# Altium schematic symbol library ESP32.SchLib: 28 symbols
Pins are listed as number, name and electrical type; pins without a type are passive.

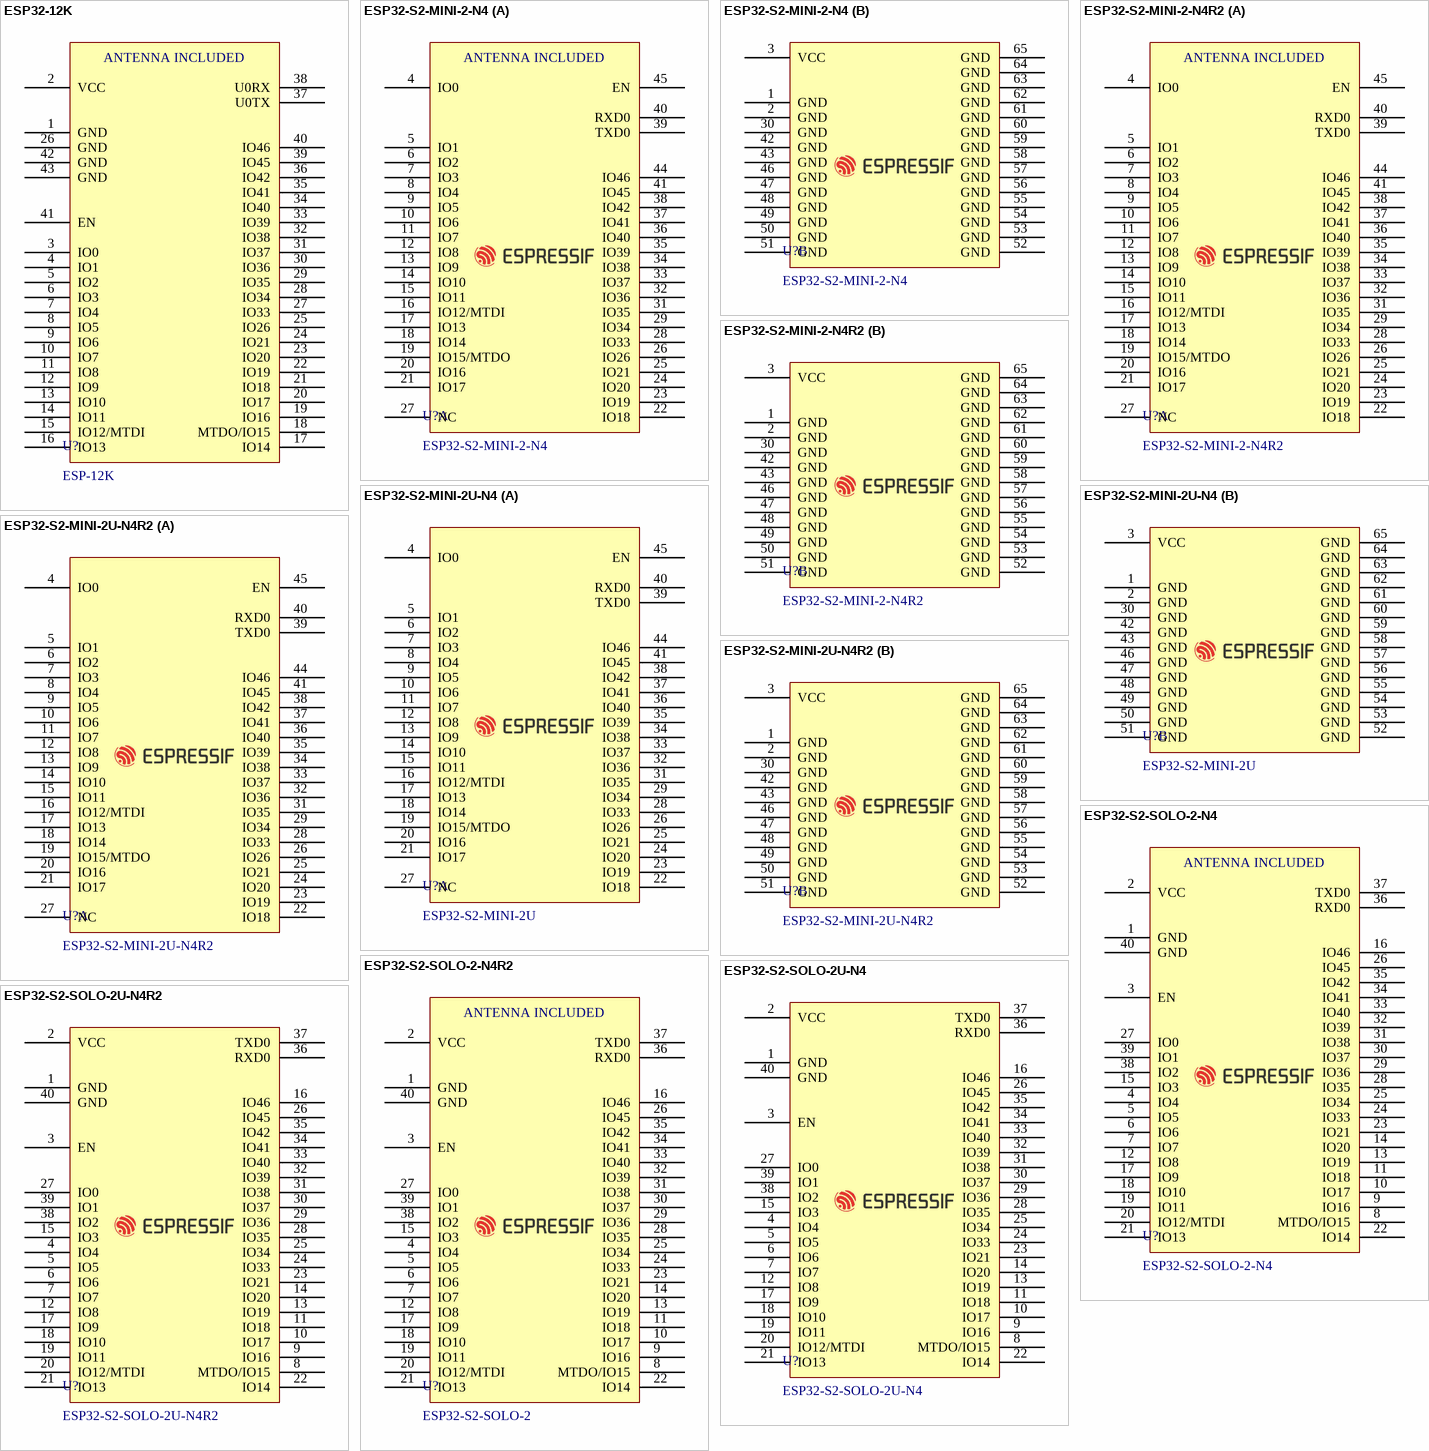
[diagram p0: symbols ESP32-12K to ESP32-S2-SOLO-2U-N4R2]

## ESP32-12K
designator U?, comment ESP-12K
ESP32-S2; Manufacturer: AI-Thinker; Supply Voltage - Max: 3.6 V; Supply Voltage - Min: 3 V; Part Number: ESP-12K; Supplier 1 URL: N/A; Supplier 2 URL: N/A; Supplier 3 URL: https://www.thegioiic.com/esp-12k-8m-psram-esp8266-ai-thinker-mach-thu-phat-wifi; Value: ESP-12K; Manufacturer Part Number: ESP-12K; Packaging: Tape and Reel; Supplier 1: Mouser; Supplier 1 Part Number: N/A; Supplier 2: Digi-Key; Supplier 2 Part Number: N/A; Supplier 3: thegioiic; Supplier 3 Part Number: ESP-12K; Mount: SMD/SMT; Operating Temperature Max: + 85 C; Operating Temperature Min: - 40 C; ComponentLink1Description: Datasheet; ComponentLink1URL: N/A; LCSC Part #: N/A; Flash size: N/A; Ram size: N/A
footprint ESP32-12K (Chip Array, Concave, 41-Leads, Pitch 1.50mm,  Body 31.00x18.00mm,  IPC Medium Density)
pins: 1 GND, 2 VCC, 3 IO0, 4 IO1, 5 IO2, 6 IO3, 7 IO4, 8 IO5, 9 IO6, 10 IO7, 11 IO8, 12 IO9, 13 IO10, 14 IO11, 15 IO12/MTDI, 16 IO13, 17 IO14, 18 MTDO/IO15, 19 IO16, 20 IO17, 21 IO18, 22 IO19, 23 IO20, 24 IO21, 25 IO26, 26 GND, 27 IO33, 28 IO34, 29 IO35, 30 IO36, 31 IO37, 32 IO38, 33 IO39, 34 IO40, 35 IO41, 36 IO42, 37 U0TX, 38 U0RX, 39 IO45, 40 IO46, 41 EN, 42 GND, 43 GND
text: ANTENNA INCLUDED

## ESP32-S2-MINI-2-N4
designator U?
ESP32-S2 embedded, Xtensa® single-core 32-bit LX7 microprocessor, up to 240 MHz; Part Number: ESP32-S2-MINI-2-N4A; Manufacturer: Espressif Systems; Supply Voltage - Max: 3.6 V; Supply Voltage - Min: 3 V; Flash size: 4MB; Supplier 1 URL: https://www.mouser.com/ProductDetail/Espressif-Systems/ESP32-S2-MINI-2-N4?qs=sGAEpiMZZMu3sxpa5v1qrjXjSzkapvOOr/iFVzmZzOw%3D; Supplier 2 URL: https://www.digikey.cn/en/products/detail/espressif-systems/ESP32-S2-MINI-2-N4/16591891; Supplier 3 URL: N/A; Value: ESP32-S2-MINI-2-N4; Manufacturer Part Number: ESP32-S2-MINI-2-N4; Packaging: Tape and Reel; Supplier 1: Mouser; Supplier 1 Part Number: 356-ESP32MINI-2-N4; Supplier 2: Digi-Key; Supplier 2 Part Number: 1965-ESP32-S2-MINI-2-N4CT-ND; Supplier 3: thegioiic; Supplier 3 Part Number: N/A; Mount: SMD/SMT; Operating Temperature Max: + 85 C; Operating Temperature Min: - 40 C; ComponentLink1Description: Datasheet; ComponentLink1URL: https://www.mouser.com/datasheet/2/891/Espressif_Systems_7_27_2022_ESP32_S2_MINI_22U_EN_V-3002662.pdf; LCSC Part #: N/A; Ram size: N/A
footprint ESP32_MINI_OB_ANTENNA
part A pins: 4 IO0, 5 IO1, 6 IO2, 7 IO3, 8 IO4, 9 IO5, 10 IO6, 11 IO7, 12 IO8, 13 IO9, 14 IO10, 15 IO11, 16 IO12/MTDI, 17 IO13, 18 IO14, 19 IO15/MTDO, 20 IO16, 21 IO17, 22 IO18, 23 IO19, 24 IO20, 25 IO21, 26 IO26, 27 NC, 28 IO33, 29 IO34, 31 IO35, 32 IO36, 33 IO37, 34 IO38, 35 IO39, 36 IO40, 37 IO41, 38 IO42, 39 TXD0, 40 RXD0, 41 IO45, 44 IO46, 45 EN
part B pins: 1 GND, 2 GND, 3 VCC, 30 GND, 42 GND, 43 GND, 46 GND, 47 GND, 48 GND, 49 GND, 50 GND, 51 GND, 52 GND, 53 GND, 54 GND, 55 GND, 56 GND, 57 GND, 58 GND, 59 GND, 60 GND, 61 GND, 62 GND, 63 GND, 64 GND, 65 GND
part A text: ANTENNA INCLUDED

## ESP32-S2-MINI-2-N4R2
designator U?
ESP32-S2 embedded, Xtensa® single-core 32-bit LX7 microprocessor, up to 240 MHz; Part Number: ESP32-S2-MINI-2-N4R2A; Manufacturer: Espressif Systems; Supply Voltage - Max: 3.6 V; Supply Voltage - Min: 3 V; Flash size: 4MB; Ram size: 2MB; Supplier 1 URL: https://www.mouser.com/ProductDetail/Espressif-Systems/ESP32-S2-MINI-2-N4R2?qs=sGAEpiMZZMu3sxpa5v1qrjXjSzkapvOOJC9Dptg9ErI%3D; Supplier 2 URL: https://www.digikey.cn/en/products/detail/espressif-systems/ESP32-S2-MINI-2-N4R2/16591895; Supplier 3 URL: N/A; Value: ESP32-S2-MINI-2-N4R2; Manufacturer Part Number: ESP32-S2-MINI-2-N4R2; Packaging: Tape and Reel; Supplier 1: Mouser; Supplier 1 Part Number: ESP32-S2-MINI-2-N4R2; Supplier 2: Digi-Key; Supplier 2 Part Number: 1965-ESP32-S2-MINI-2-N4R2-ND; Supplier 3: thegioiic; Supplier 3 Part Number: N/A; Mount: SMD/SMT; Operating Temperature Max: + 85 C; Operating Temperature Min: - 40 C; ComponentLink1Description: Datasheet; ComponentLink1URL: https://www.mouser.com/datasheet/2/891/Espressif_Systems_7_27_2022_ESP32_S2_MINI_22U_EN_V-3002662.pdf; LCSC Part #: N/A
footprint ESP32_MINI_OB_ANTENNA
part A pins: 4 IO0, 5 IO1, 6 IO2, 7 IO3, 8 IO4, 9 IO5, 10 IO6, 11 IO7, 12 IO8, 13 IO9, 14 IO10, 15 IO11, 16 IO12/MTDI, 17 IO13, 18 IO14, 19 IO15/MTDO, 20 IO16, 21 IO17, 22 IO18, 23 IO19, 24 IO20, 25 IO21, 26 IO26, 27 NC, 28 IO33, 29 IO34, 31 IO35, 32 IO36, 33 IO37, 34 IO38, 35 IO39, 36 IO40, 37 IO41, 38 IO42, 39 TXD0, 40 RXD0, 41 IO45, 44 IO46, 45 EN
part B pins: 1 GND, 2 GND, 3 VCC, 30 GND, 42 GND, 43 GND, 46 GND, 47 GND, 48 GND, 49 GND, 50 GND, 51 GND, 52 GND, 53 GND, 54 GND, 55 GND, 56 GND, 57 GND, 58 GND, 59 GND, 60 GND, 61 GND, 62 GND, 63 GND, 64 GND, 65 GND
part A text: ANTENNA INCLUDED

## ESP32-S2-MINI-2U-N4
designator U?, comment ESP32-S2-MINI-2U
ESP32-S2 embedded, Xtensa® single-core 32-bit LX7 microprocessor, up to 240 MHz; Part Number: ESP32-S2-MINI-2U-N4A; Manufacturer: Espressif Systems; Manufacturer Part Number: ESP32-S2-MINI-2U-N4; Supply Voltage - Max: 3.6 V; Supply Voltage - Min: 3 V; Flash size: 4MB; Supplier 1 URL: https://www.mouser.com/ProductDetail/Espressif-Systems/ESP32-S2-MINI-2U-N4?qs=sGAEpiMZZMu3sxpa5v1qrjXjSzkapvOOhy01huix4lM%3D; Supplier 2 URL: N/A; Supplier 3 URL: N/A; Value: ESP32-S2-MINI-2U; Packaging: Tape and Reel; Supplier 1: Mouser; Supplier 1 Part Number: 356-ESP32MINI-2U-N4; Supplier 2: Digi-Key; Supplier 2 Part Number: N/A; Supplier 3: thegioiic; Supplier 3 Part Number: N/A; Mount: SMD/SMT; Operating Temperature Max: + 85 C; Operating Temperature Min: - 40 C; ComponentLink1Description: Datasheet; ComponentLink1URL: https://www.mouser.com/datasheet/2/891/Espressif_Systems_7_27_2022_ESP32_S2_MINI_22U_EN_V-3002662.pdf; LCSC Part #: N/A; Ram size: N/A
footprint ESP32_MINI
part A pins: 4 IO0, 5 IO1, 6 IO2, 7 IO3, 8 IO4, 9 IO5, 10 IO6, 11 IO7, 12 IO8, 13 IO9, 14 IO10, 15 IO11, 16 IO12/MTDI, 17 IO13, 18 IO14, 19 IO15/MTDO, 20 IO16, 21 IO17, 22 IO18, 23 IO19, 24 IO20, 25 IO21, 26 IO26, 27 NC, 28 IO33, 29 IO34, 31 IO35, 32 IO36, 33 IO37, 34 IO38, 35 IO39, 36 IO40, 37 IO41, 38 IO42, 39 TXD0, 40 RXD0, 41 IO45, 44 IO46, 45 EN
part B pins: 1 GND, 2 GND, 3 VCC, 30 GND, 42 GND, 43 GND, 46 GND, 47 GND, 48 GND, 49 GND, 50 GND, 51 GND, 52 GND, 53 GND, 54 GND, 55 GND, 56 GND, 57 GND, 58 GND, 59 GND, 60 GND, 61 GND, 62 GND, 63 GND, 64 GND, 65 GND

## ESP32-S2-MINI-2U-N4R2
designator U?
ESP32-S2 embedded, Xtensa® single-core 32-bit LX7 microprocessor, up to 240 MHz; Part Number: ESP32-S2-MINI-2U-N4R2A; Manufacturer: Espressif Systems; Supply Voltage - Max: 3.6 V; Supply Voltage - Min: 3 V; Flash size: 4MB; Ram size: 2MB; Supplier 1 URL: https://www.mouser.com/ProductDetail/Espressif-Systems/ESP32-S2-MINI-2U-N4R2?qs=sGAEpiMZZMu3sxpa5v1qrjXjSzkapvOOZRm3ki/1tDs%3D; Supplier 2 URL: https://www.digikey.cn/en/products/detail/espressif-systems/ESP32-S2-MINI-2U-N4R2/16591889; Supplier 3 URL: N/A; Value: ESP32-S2-MINI-2U-N4R2; Manufacturer Part Number: ESP32-S2-MINI-2U-N4R2; Packaging: Tape and Reel; Supplier 1: Mouser; Supplier 1 Part Number: 356-ESP32MINI2U-N4R2; Supplier 2: Digi-Key; Supplier 2 Part Number: 1965-ESP32-S2-MINI-2U-N4R2-ND; Supplier 3: thegioiic; Supplier 3 Part Number: N/A; Mount: SMD/SMT; Operating Temperature Max: + 85 C; Operating Temperature Min: - 40 C; ComponentLink1Description: Datasheet; ComponentLink1URL: https://www.mouser.com/datasheet/2/891/Espressif_Systems_7_27_2022_ESP32_S2_MINI_22U_EN_V-3002662.pdf; LCSC Part #: N/A
footprint ESP32_MINI
part A pins: 4 IO0, 5 IO1, 6 IO2, 7 IO3, 8 IO4, 9 IO5, 10 IO6, 11 IO7, 12 IO8, 13 IO9, 14 IO10, 15 IO11, 16 IO12/MTDI, 17 IO13, 18 IO14, 19 IO15/MTDO, 20 IO16, 21 IO17, 22 IO18, 23 IO19, 24 IO20, 25 IO21, 26 IO26, 27 NC, 28 IO33, 29 IO34, 31 IO35, 32 IO36, 33 IO37, 34 IO38, 35 IO39, 36 IO40, 37 IO41, 38 IO42, 39 TXD0, 40 RXD0, 41 IO45, 44 IO46, 45 EN
part B pins: 1 GND, 2 GND, 3 VCC, 30 GND, 42 GND, 43 GND, 46 GND, 47 GND, 48 GND, 49 GND, 50 GND, 51 GND, 52 GND, 53 GND, 54 GND, 55 GND, 56 GND, 57 GND, 58 GND, 59 GND, 60 GND, 61 GND, 62 GND, 63 GND, 64 GND, 65 GND

## ESP32-S2-SOLO-2-N4
designator U?
ESP32-S2 embedded, Xtensa® single-core 32-bit LX7 microprocessor, up to 240 MHz; Manufacturer: Espressif Systems; Supply Voltage - Max: 3.6 V; Supply Voltage - Min: 3 V; Flash size: 4MB; Part Number: ESP32-S2-SOLO-2-N4; Supplier 1 URL: https://www.mouser.com/ProductDetail/Espressif-Systems/ESP32-S2-SOLO-2-N4?qs=sGAEpiMZZMu3sxpa5v1qrjXjSzkapvOOEC88hoUZJyA%3D; Supplier 2 URL: https://www.digikey.cn/en/products/detail/espressif-systems/ESP32-S2-SOLO-2-N4/16591892; Supplier 3 URL: N/A; Value: ESP32-S2-SOLO-2-N4; Manufacturer Part Number: ESP32-S2-SOLO-2-N4; Packaging: Tape and Reel; Supplier 1: Mouser; Supplier 1 Part Number: 356-ESP32SOLO-2-N4; Supplier 2: Digi-Key; Supplier 2 Part Number: 1965-ESP32-S2-SOLO-2-N4CT-ND; Supplier 3: thegioiic; Supplier 3 Part Number: N/A; Mount: SMD/SMT; Operating Temperature Max: + 85 C; Operating Temperature Min: - 40 C; ComponentLink1Description: Datasheet; ComponentLink1URL: https://www.mouser.com/datasheet/2/891/Espressif_Systems_7_27_2022_ESP32_S2_SOLO_22U_EN_v-3002658.pdf; LCSC Part #: N/A; Ram size: N/A
footprint ESP32_SOLO_OB_ANTENNA
pins: 1 GND, 2 VCC, 3 EN, 4 IO4, 5 IO5, 6 IO6, 7 IO7, 8 MTDO/IO15, 9 IO16, 10 IO17, 11 IO18, 12 IO8, 13 IO19, 14 IO20, 15 IO3, 16 IO46, 17 IO9, 18 IO10, 19 IO11, 20 IO12/MTDI, 21 IO13, 22 IO14, 23 IO21, 24 IO33, 25 IO34, 26 IO45, 27 IO0, 28 IO35, 29 IO36, 30 IO37, 31 IO38, 32 IO39, 33 IO40, 34 IO41, 35 IO42, 36 RXD0, 37 TXD0, 38 IO2, 39 IO1, 40 GND
text: ANTENNA INCLUDED

## ESP32-S2-SOLO-2-N4R2
designator U?, comment ESP32-S2-SOLO-2
ESP32-S2 embedded, Xtensa® single-core 32-bit LX7 microprocessor, up to 240 MHz; Part Number: ESP32-S2-SOLO-2-N4R2; Manufacturer: Espressif Systems; Supply Voltage - Max: 3.6 V; Supply Voltage - Min: 3 V; Flash size: 4MB; Ram size: 2MB; Supplier 1 URL: https://www.mouser.com/ProductDetail/Espressif-Systems/ESP32-S2-SOLO-2-N4R2?qs=sGAEpiMZZMu3sxpa5v1qrjXjSzkapvOO3gwRcSEsnoY%3D; Supplier 2 URL: https://www.digikey.cn/en/products/detail/espressif-systems/ESP32-S2-SOLO-2-N4R2/16591896; Supplier 3 URL: N/A; Value: ESP32-S2-SOLO-2; Manufacturer Part Number: ESP32-S2-SOLO-2-N4R2; Packaging: Tape and Reel; Supplier 1: Mouser; Supplier 1 Part Number: 356-ESP32SOLO-2-N4R2; Supplier 2: Digi-Key; Supplier 2 Part Number: 1965-ESP32-S2-SOLO-2-N4R2TR-ND; Supplier 3: thegioiic; Supplier 3 Part Number: N/A; Mount: SMD/SMT; Operating Temperature Max: + 85 C; Operating Temperature Min: - 40 C; ComponentLink1Description: Datasheet; ComponentLink1URL: https://www.mouser.com/datasheet/2/891/Espressif_Systems_7_27_2022_ESP32_S2_SOLO_22U_EN_v-3002658.pdf; LCSC Part #: N/A
footprint ESP32_SOLO_OB_ANTENNA
pins: 1 GND, 2 VCC, 3 EN, 4 IO4, 5 IO5, 6 IO6, 7 IO7, 8 MTDO/IO15, 9 IO16, 10 IO17, 11 IO18, 12 IO8, 13 IO19, 14 IO20, 15 IO3, 16 IO46, 17 IO9, 18 IO10, 19 IO11, 20 IO12/MTDI, 21 IO13, 22 IO14, 23 IO21, 24 IO33, 25 IO34, 26 IO45, 27 IO0, 28 IO35, 29 IO36, 30 IO37, 31 IO38, 32 IO39, 33 IO40, 34 IO41, 35 IO42, 36 RXD0, 37 TXD0, 38 IO2, 39 IO1, 40 GND
text: ANTENNA INCLUDED

## ESP32-S2-SOLO-2U-N4
designator U?
ESP32-S2 embedded, Xtensa® single-core 32-bit LX7 microprocessor, up to 240 MHz; Manufacturer: Espressif Systems; Supply Voltage - Max: 3.6 V; Supply Voltage - Min: 3 V; Flash size: 4MB; Part Number: ESP32-S2-SOLO-2U-N4; Supplier 1 URL: https://www.mouser.com/ProductDetail/Espressif-Systems/ESP32-S2-SOLO-2U-N4?qs=sGAEpiMZZMu3sxpa5v1qrjXjSzkapvOOhwzZOR2/Xv4%3D; Supplier 2 URL: https://www.digikey.cn/en/products/detail/espressif-systems/ESP32-S2-SOLO-2U-N4/16591894; Supplier 3 URL: N/A; Value: ESP32-S2-SOLO-2U-N4; Manufacturer Part Number: ESP32-S2-SOLO-2U-N4; Packaging: Tape and Reel; Supplier 1: Mouser; Supplier 1 Part Number: 356-ESP32SOLO-2U-N4; Supplier 2: Digi-Key; Supplier 2 Part Number: 1965-ESP32-S2-SOLO-2U-N4CT-ND; Supplier 3: thegioiic; Supplier 3 Part Number: N/A; Mount: SMD/SMT; Operating Temperature Max: + 85 C; Operating Temperature Min: - 40 C; ComponentLink1Description: Datasheet; ComponentLink1URL: https://www.mouser.com/datasheet/2/891/Espressif_Systems_7_27_2022_ESP32_S2_SOLO_22U_EN_v-3002658.pdf; LCSC Part #: N/A; Ram size: N/A
footprint ESP32_SOLO
pins: 1 GND, 2 VCC, 3 EN, 4 IO4, 5 IO5, 6 IO6, 7 IO7, 8 MTDO/IO15, 9 IO16, 10 IO17, 11 IO18, 12 IO8, 13 IO19, 14 IO20, 15 IO3, 16 IO46, 17 IO9, 18 IO10, 19 IO11, 20 IO12/MTDI, 21 IO13, 22 IO14, 23 IO21, 24 IO33, 25 IO34, 26 IO45, 27 IO0, 28 IO35, 29 IO36, 30 IO37, 31 IO38, 32 IO39, 33 IO40, 34 IO41, 35 IO42, 36 RXD0, 37 TXD0, 38 IO2, 39 IO1, 40 GND

## ESP32-S2-SOLO-2U-N4R2
designator U?
ESP32-S2 embedded, Xtensa® single-core 32-bit LX7 microprocessor, up to 240 MHz; Manufacturer: Espressif Systems; Supply Voltage - Max: 3.6 V; Supply Voltage - Min: 3 V; Flash size: 4MB; Ram size: 2MB; Part Number: ESP32-S2-SOLO-2U-N4R2; Supplier 1 URL: https://www.mouser.com/ProductDetail/Espressif-Systems/ESP32-S2-SOLO-2U-N4R2?qs=sGAEpiMZZMu3sxpa5v1qrjXjSzkapvOO/wRv9SAyZyc%3D; Supplier 2 URL: https://www.digikey.cn/en/products/detail/espressif-systems/esp32-s2-solo-2u-n4r2/16591890; Supplier 3 URL: N/A; Value: ESP32-S2-SOLO-2U-N4R2; Manufacturer Part Number: ESP32-S2-SOLO-2U-N4R2; Packaging: Tape and Reel; Supplier 1: Mouser; Supplier 1 Part Number: 356-ESP32SOLO2U-N4R2; Supplier 2: Digi-Key; Supplier 2 Part Number: 1965-ESP32-S2-SOLO-2U-N4R2CT-ND; Supplier 3: thegioiic; Supplier 3 Part Number: N/A; Mount: SMD/SMT; Operating Temperature Max: + 85 C; Operating Temperature Min: - 40 C; ComponentLink1Description: Datasheet; ComponentLink1URL: https://www.mouser.com/datasheet/2/891/Espressif_Systems_7_27_2022_ESP32_S2_SOLO_22U_EN_v-3002658.pdf; LCSC Part #: N/A
footprint ESP32_SOLO
pins: 1 GND, 2 VCC, 3 EN, 4 IO4, 5 IO5, 6 IO6, 7 IO7, 8 MTDO/IO15, 9 IO16, 10 IO17, 11 IO18, 12 IO8, 13 IO19, 14 IO20, 15 IO3, 16 IO46, 17 IO9, 18 IO10, 19 IO11, 20 IO12/MTDI, 21 IO13, 22 IO14, 23 IO21, 24 IO33, 25 IO34, 26 IO45, 27 IO0, 28 IO35, 29 IO36, 30 IO37, 31 IO38, 32 IO39, 33 IO40, 34 IO41, 35 IO42, 36 RXD0, 37 TXD0, 38 IO2, 39 IO1, 40 GND

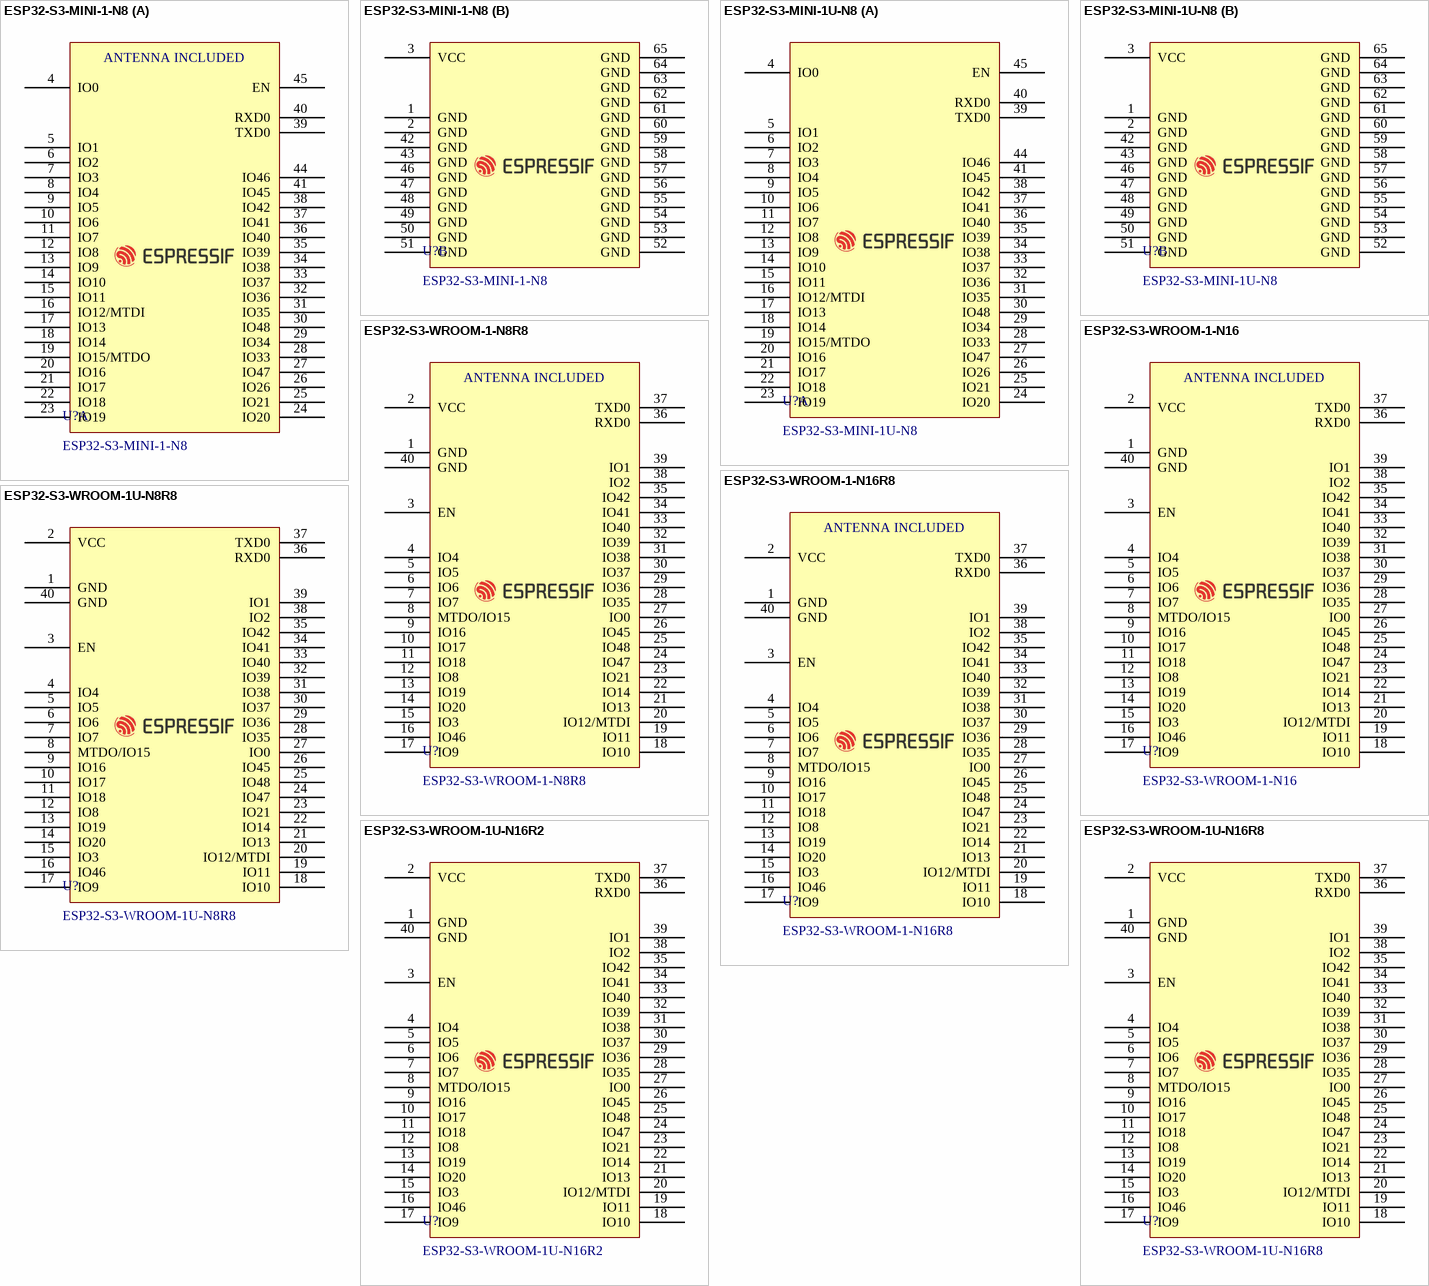
[diagram p1: symbols ESP32-S3-MINI-1-N8 to ESP32-S3-WROOM-1U-N16R8]

## ESP32-S3-MINI-1-N8
designator U?
Xtensa® 32-bit LX7 dual-core processor that operates at up to 240 MHz; Part Number: ESP32-S3-MINI-1-N8A; Manufacturer: Espressif Systems; Supply Voltage - Max: 3.6 V; Supply Voltage - Min: 3 V; Flash size: 8MB; Supplier 1 URL: https://www.mouser.com/ProductDetail/Espressif-Systems/ESP32-S3-MINI-1-N8?qs=XAiT9M5g4x82rl6F/IYUQg%3D%3D&utm_source=mouser-refine-download&utm_medium=file&utm_campaign=ESP32-S3-MINI-1-N8&utm_content=Espressif-Systems; Supplier 2 URL: https://www.digikey.com/en/products/detail/espressif-systems/ESP32-S3-MINI-1-N8/15295890; Supplier 3 URL: N/A; Value: ESP32-S3-MINI-1-N8; Manufacturer Part Number: ESP32-S3-MINI-1-N8; Packaging: Tape and Reel; Supplier 1: Mouser; Supplier 1 Part Number: 356-ESP32-S3-MINI1N8; Supplier 2: Digi-Key; Supplier 2 Part Number: 1965-ESP32-S3-MINI-1-N8-ND; Supplier 3: thegioiic; Supplier 3 Part Number: N/A; Mount: SMD/SMT; Operating Temperature Max: + 85 C; Operating Temperature Min: - 40 C; ComponentLink1Description: Datasheet; ComponentLink1URL: https://www.mouser.com/datasheet/2/891/esp32_s3_mini_1_mini_1u_datasheet_en-2997643.pdf; LCSC Part #: N/A; Ram size: N/A
footprint ESP32_MINI_OB_ANTENNA
part A pins: 4 IO0, 5 IO1, 6 IO2, 7 IO3, 8 IO4, 9 IO5, 10 IO6, 11 IO7, 12 IO8, 13 IO9, 14 IO10, 15 IO11, 16 IO12/MTDI, 17 IO13, 18 IO14, 19 IO15/MTDO, 20 IO16, 21 IO17, 22 IO18, 23 IO19, 24 IO20, 25 IO21, 26 IO26, 27 IO47, 28 IO33, 29 IO34, 30 IO48, 31 IO35, 32 IO36, 33 IO37, 34 IO38, 35 IO39, 36 IO40, 37 IO41, 38 IO42, 39 TXD0, 40 RXD0, 41 IO45, 44 IO46, 45 EN
part B pins: 1 GND, 2 GND, 3 VCC, 42 GND, 43 GND, 46 GND, 47 GND, 48 GND, 49 GND, 50 GND, 51 GND, 52 GND, 53 GND, 54 GND, 55 GND, 56 GND, 57 GND, 58 GND, 59 GND, 60 GND, 61 GND, 62 GND, 63 GND, 64 GND, 65 GND
part A text: ANTENNA INCLUDED

## ESP32-S3-MINI-1U-N8
designator U?
Xtensa® 32-bit LX7 dual-core processor that operates at up to 240 MHz; Part Number: ESP32-S3-MINI-1U-N8A; Manufacturer: Espressif Systems; Supply Voltage - Max: 3.6 V; Supply Voltage - Min: 3 V; Flash size: 8MB; Supplier 1 URL: https://www.mouser.com/ProductDetail/Espressif-Systems/ESP32-S3-MINI-1U-N8?qs=IPgv5n7u5QZ2yjt9dMz22g%3D%3D; Supplier 2 URL: https://www.digikey.com/en/products/detail/espressif-systems/ESP32-S3-MINI-1U-N8/17728863?s=N4IgTCBcDaIKIGUAKBmMBaBL0FkCSAcnugIwCq6BAHCALoC%2BQA; Supplier 3 URL: N/A; Value: ESP32-S3-MINI-1U-N8; Manufacturer Part Number: ESP32-S3-MINI-1U-N8; Packaging: Tape and Reel; Supplier 1: Mouser; Supplier 1 Part Number: 356-ESP32S3MINI1UN8; Supplier 2: Digi-Key; Supplier 2 Part Number: 1965-ESP32-S3-MINI-1U-N8TR-ND; Supplier 3: thegioiic; Supplier 3 Part Number: N/A; Mount: SMD/SMT; Operating Temperature Max: + 85 C; Operating Temperature Min: - 40 C; ComponentLink1Description: Datasheet; ComponentLink1URL: https://www.mouser.com/datasheet/2/891/esp32_s3_mini_1_mini_1u_datasheet_en-2997643.pdf; LCSC Part #: N/A; Ram size: N/A
footprint ESP32_MINI
part A pins: 4 IO0, 5 IO1, 6 IO2, 7 IO3, 8 IO4, 9 IO5, 10 IO6, 11 IO7, 12 IO8, 13 IO9, 14 IO10, 15 IO11, 16 IO12/MTDI, 17 IO13, 18 IO14, 19 IO15/MTDO, 20 IO16, 21 IO17, 22 IO18, 23 IO19, 24 IO20, 25 IO21, 26 IO26, 27 IO47, 28 IO33, 29 IO34, 30 IO48, 31 IO35, 32 IO36, 33 IO37, 34 IO38, 35 IO39, 36 IO40, 37 IO41, 38 IO42, 39 TXD0, 40 RXD0, 41 IO45, 44 IO46, 45 EN
part B pins: 1 GND, 2 GND, 3 VCC, 42 GND, 43 GND, 46 GND, 47 GND, 48 GND, 49 GND, 50 GND, 51 GND, 52 GND, 53 GND, 54 GND, 55 GND, 56 GND, 57 GND, 58 GND, 59 GND, 60 GND, 61 GND, 62 GND, 63 GND, 64 GND, 65 GND

## ESP32-S3-WROOM-1-N8R8
designator U?
Xtensa® 32-bit LX7 dual-core processor that operates at up to 240 MHz; Manufacturer: Espressif Systems; Supply Voltage - Max: 3.6 V; Supply Voltage - Min: 3 V; Flash size: 8MB; Part Number: ESP32-S3-WROOM-1-N8R8; Supplier 1 URL: N/A; Supplier 2 URL: https://www.digikey.com/en/products/detail/espressif-systems/ESP32-S3-WROOM-1-N8R8/15295891; Supplier 3 URL: N/A; Value: ESP32-S3-WROOM-1-N8R8; Manufacturer Part Number: ESP32-S3-WROOM-1-N8R8; Packaging: Tape and Reel; Supplier 1: Mouser; Supplier 1 Part Number: N/A; Supplier 2: Digi-Key; Supplier 2 Part Number: 1965-ESP32-S3-WROOM-1-N8R8CT-ND; Supplier 3: thegioiic; Supplier 3 Part Number: N/A; Mount: SMD/SMT; Operating Temperature Max: + 85 C; Operating Temperature Min: - 40 C; ComponentLink1Description: Datasheet; ComponentLink1URL: https://www.mouser.com/datasheet/2/891/esp32_s3_wroom_1_wroom_1u_datasheet_en-2930317.pdf; LCSC Part #: C2913201; Ram size: 8MB
footprint ESP32_SOLO_OB_ANTENNA
pins: 1 GND, 2 VCC, 3 EN, 4 IO4, 5 IO5, 6 IO6, 7 IO7, 8 MTDO/IO15, 9 IO16, 10 IO17, 11 IO18, 12 IO8, 13 IO19, 14 IO20, 15 IO3, 16 IO46, 17 IO9, 18 IO10, 19 IO11, 20 IO12/MTDI, 21 IO13, 22 IO14, 23 IO21, 24 IO47, 25 IO48, 26 IO45, 27 IO0, 28 IO35, 29 IO36, 30 IO37, 31 IO38, 32 IO39, 33 IO40, 34 IO41, 35 IO42, 36 RXD0, 37 TXD0, 38 IO2, 39 IO1, 40 GND
text: ANTENNA INCLUDED

## ESP32-S3-WROOM-1-N16
designator U?
Xtensa® 32-bit LX7 dual-core processor that operates at up to 240 MHz; Manufacturer: Espressif Systems; Supply Voltage - Max: 3.6 V; Supply Voltage - Min: 3 V; Flash size: 16MB; Part Number: ESP32-S3-WROOM-1-N16; Supplier 1 URL: N/A; Supplier 2 URL: https://www.digikey.com/en/products/detail/espressif-systems/ESP32-S3-WROOM-1-N16/16162647; Supplier 3 URL: N/A; Value: ESP32-S3-WROOM-1-N16; Manufacturer Part Number: ESP32-S3-WROOM-1-N16; Packaging: Tape and Reel; Supplier 1: Mouser; Supplier 1 Part Number: N/A; Supplier 2: Digi-Key; Supplier 2 Part Number: 1965-ESP32-S3-WROOM-1-N16TR-ND; Supplier 3: thegioiic; Supplier 3 Part Number: N/A; Mount: SMD/SMT; Operating Temperature Max: + 85 C; Operating Temperature Min: - 40 C; ComponentLink1Description: Datasheet; ComponentLink1URL: https://www.mouser.com/datasheet/2/891/esp32_s3_wroom_1_wroom_1u_datasheet_en-2930317.pdf; LCSC Part #: C2913199; Ram size: N/A
footprint ESP32_SOLO_OB_ANTENNA
pins: 1 GND, 2 VCC, 3 EN, 4 IO4, 5 IO5, 6 IO6, 7 IO7, 8 MTDO/IO15, 9 IO16, 10 IO17, 11 IO18, 12 IO8, 13 IO19, 14 IO20, 15 IO3, 16 IO46, 17 IO9, 18 IO10, 19 IO11, 20 IO12/MTDI, 21 IO13, 22 IO14, 23 IO21, 24 IO47, 25 IO48, 26 IO45, 27 IO0, 28 IO35, 29 IO36, 30 IO37, 31 IO38, 32 IO39, 33 IO40, 34 IO41, 35 IO42, 36 RXD0, 37 TXD0, 38 IO2, 39 IO1, 40 GND
text: ANTENNA INCLUDED

## ESP32-S3-WROOM-1-N16R8
designator U?
Xtensa® 32-bit LX7 dual-core processor that operates at up to 240 MHz; Manufacturer: Espressif Systems; Supply Voltage - Max: 3.6 V; Supply Voltage - Min: 3 V; Flash size: 16MB; Ram size: 8MB; Part Number: ESP32-S3-WROOM-1-N16R8; Supplier 1 URL: N/A; Supplier 2 URL: https://www.digikey.com/en/products/detail/espressif-systems/ESP32-S3-WROOM-1-N16R8/16162642; Supplier 3 URL: N/A; Value: ESP32-S3-WROOM-1-N16R8; Manufacturer Part Number: ESP32-S3-WROOM-1-N16R8; Packaging: Tape and Reel; Supplier 1: Mouser; Supplier 1 Part Number: N/A; Supplier 2: Digi-Key; Supplier 2 Part Number: 1965-ESP32-S3-WROOM-1-N16R8TR-ND; Supplier 3: thegioiic; Supplier 3 Part Number: N/A; Mount: SMD/SMT; Operating Temperature Max: + 85 C; Operating Temperature Min: - 40 C; ComponentLink1Description: Datasheet; ComponentLink1URL: https://www.mouser.com/datasheet/2/891/esp32_s3_wroom_1_wroom_1u_datasheet_en-2930317.pdf; LCSC Part #: C2913202
footprint ESP32_SOLO_OB_ANTENNA
pins: 1 GND, 2 VCC, 3 EN, 4 IO4, 5 IO5, 6 IO6, 7 IO7, 8 MTDO/IO15, 9 IO16, 10 IO17, 11 IO18, 12 IO8, 13 IO19, 14 IO20, 15 IO3, 16 IO46, 17 IO9, 18 IO10, 19 IO11, 20 IO12/MTDI, 21 IO13, 22 IO14, 23 IO21, 24 IO47, 25 IO48, 26 IO45, 27 IO0, 28 IO35, 29 IO36, 30 IO37, 31 IO38, 32 IO39, 33 IO40, 34 IO41, 35 IO42, 36 RXD0, 37 TXD0, 38 IO2, 39 IO1, 40 GND
text: ANTENNA INCLUDED

## ESP32-S3-WROOM-1U-N8R8
designator U?
Xtensa® 32-bit LX7 dual-core processor that operates at up to 240 MHz; Manufacturer: Espressif Systems; Supply Voltage - Max: 3.6 V; Supply Voltage - Min: 3 V; Flash size: 8MB; Part Number: ESP32-S3-WROOM-1U-N8R8; Supplier 1 URL: N/A; Supplier 2 URL: https://www.digikey.com/en/products/detail/espressif-systems/ESP32-S3-WROOM-1U-N8R8/16162638; Supplier 3 URL: N/A; Value: ESP32-S3-WROOM-1U-N8R8; Manufacturer Part Number: ESP32-S3-WROOM-1U-N8R8; Packaging: Tape and Reel; Supplier 1: Mouser; Supplier 1 Part Number: N/A; Supplier 2: Digi-Key; Supplier 2 Part Number: 1965-ESP32-S3-WROOM-1U-N8R8TR-ND; Supplier 3: thegioiic; Supplier 3 Part Number: N/A; Mount: SMD/SMT; Operating Temperature Max: + 85 C; Operating Temperature Min: - 40 C; ComponentLink1Description: Datasheet; ComponentLink1URL: https://www.mouser.com/datasheet/2/891/esp32_s3_wroom_1_wroom_1u_datasheet_en-2930317.pdf; LCSC Part #: C2980300; Ram size: 8MB
footprint ESP32_SOLO
pins: 1 GND, 2 VCC, 3 EN, 4 IO4, 5 IO5, 6 IO6, 7 IO7, 8 MTDO/IO15, 9 IO16, 10 IO17, 11 IO18, 12 IO8, 13 IO19, 14 IO20, 15 IO3, 16 IO46, 17 IO9, 18 IO10, 19 IO11, 20 IO12/MTDI, 21 IO13, 22 IO14, 23 IO21, 24 IO47, 25 IO48, 26 IO45, 27 IO0, 28 IO35, 29 IO36, 30 IO37, 31 IO38, 32 IO39, 33 IO40, 34 IO41, 35 IO42, 36 RXD0, 37 TXD0, 38 IO2, 39 IO1, 40 GND

## ESP32-S3-WROOM-1U-N16R2
designator U?
Xtensa® 32-bit LX7 dual-core processor that operates at up to 240 MHz; Manufacturer: Espressif Systems; Supply Voltage - Max: 3.6 V; Supply Voltage - Min: 3 V; Flash size: 16MB; Part Number: ESP32-S3-WROOM-1U-N16R2; Supplier 1 URL: N/A; Supplier 2 URL: https://www.digikey.com/en/products/detail/espressif-systems/ESP32-S3-WROOM-1U-N16R2/16162650; Supplier 3 URL: N/A; Value: ESP32-S3-WROOM-1U-N16R2; Manufacturer Part Number: ESP32-S3-WROOM-1U-N16R2; Packaging: Tape and Reel; Supplier 1: Mouser; Supplier 1 Part Number: N/A; Supplier 2: Digi-Key; Supplier 2 Part Number: 1965-ESP32-S3-WROOM-1U-N16R2TR-ND; Supplier 3: thegioiic; Supplier 3 Part Number: N/A; Mount: SMD/SMT; Operating Temperature Max: + 85 C; Operating Temperature Min: - 40 C; ComponentLink1Description: Datasheet; ComponentLink1URL: https://www.mouser.com/datasheet/2/891/esp32_s3_wroom_1_wroom_1u_datasheet_en-2930317.pdf; LCSC Part #: C3013945; Ram size: N/A
footprint ESP32_SOLO
pins: 1 GND, 2 VCC, 3 EN, 4 IO4, 5 IO5, 6 IO6, 7 IO7, 8 MTDO/IO15, 9 IO16, 10 IO17, 11 IO18, 12 IO8, 13 IO19, 14 IO20, 15 IO3, 16 IO46, 17 IO9, 18 IO10, 19 IO11, 20 IO12/MTDI, 21 IO13, 22 IO14, 23 IO21, 24 IO47, 25 IO48, 26 IO45, 27 IO0, 28 IO35, 29 IO36, 30 IO37, 31 IO38, 32 IO39, 33 IO40, 34 IO41, 35 IO42, 36 RXD0, 37 TXD0, 38 IO2, 39 IO1, 40 GND

## ESP32-S3-WROOM-1U-N16R8
designator U?
Xtensa® 32-bit LX7 dual-core processor that operates at up to 240 MHz; Manufacturer: Espressif Systems; Supply Voltage - Max: 3.6 V; Supply Voltage - Min: 3 V; Flash size: 16MB; Ram size: 8MB; Part Number: ESP32-S3-WROOM-1U-N16R8; Supplier 1 URL: N/A; Supplier 2 URL: https://www.digikey.com/en/products/detail/espressif-systems/ESP32-S3-WROOM-1U-N16R8/16162641; Supplier 3 URL: N/A; Value: ESP32-S3-WROOM-1U-N16R8; Manufacturer Part Number: ESP32-S3-WROOM-1U-N16R8; Packaging: Tape and Reel; Supplier 1: Mouser; Supplier 1 Part Number: N/A; Supplier 2: Digi-Key; Supplier 2 Part Number: 1965-ESP32-S3-WROOM-1U-N16R8TR-ND; Supplier 3: thegioiic; Supplier 3 Part Number: N/A; Mount: SMD/SMT; Operating Temperature Max: + 85 C; Operating Temperature Min: - 40 C; ComponentLink1Description: Datasheet; ComponentLink1URL: https://www.mouser.com/datasheet/2/891/esp32_s3_wroom_1_wroom_1u_datasheet_en-2930317.pdf; LCSC Part #: C3013946
footprint ESP32_SOLO
pins: 1 GND, 2 VCC, 3 EN, 4 IO4, 5 IO5, 6 IO6, 7 IO7, 8 MTDO/IO15, 9 IO16, 10 IO17, 11 IO18, 12 IO8, 13 IO19, 14 IO20, 15 IO3, 16 IO46, 17 IO9, 18 IO10, 19 IO11, 20 IO12/MTDI, 21 IO13, 22 IO14, 23 IO21, 24 IO47, 25 IO48, 26 IO45, 27 IO0, 28 IO35, 29 IO36, 30 IO37, 31 IO38, 32 IO39, 33 IO40, 34 IO41, 35 IO42, 36 RXD0, 37 TXD0, 38 IO2, 39 IO1, 40 GND

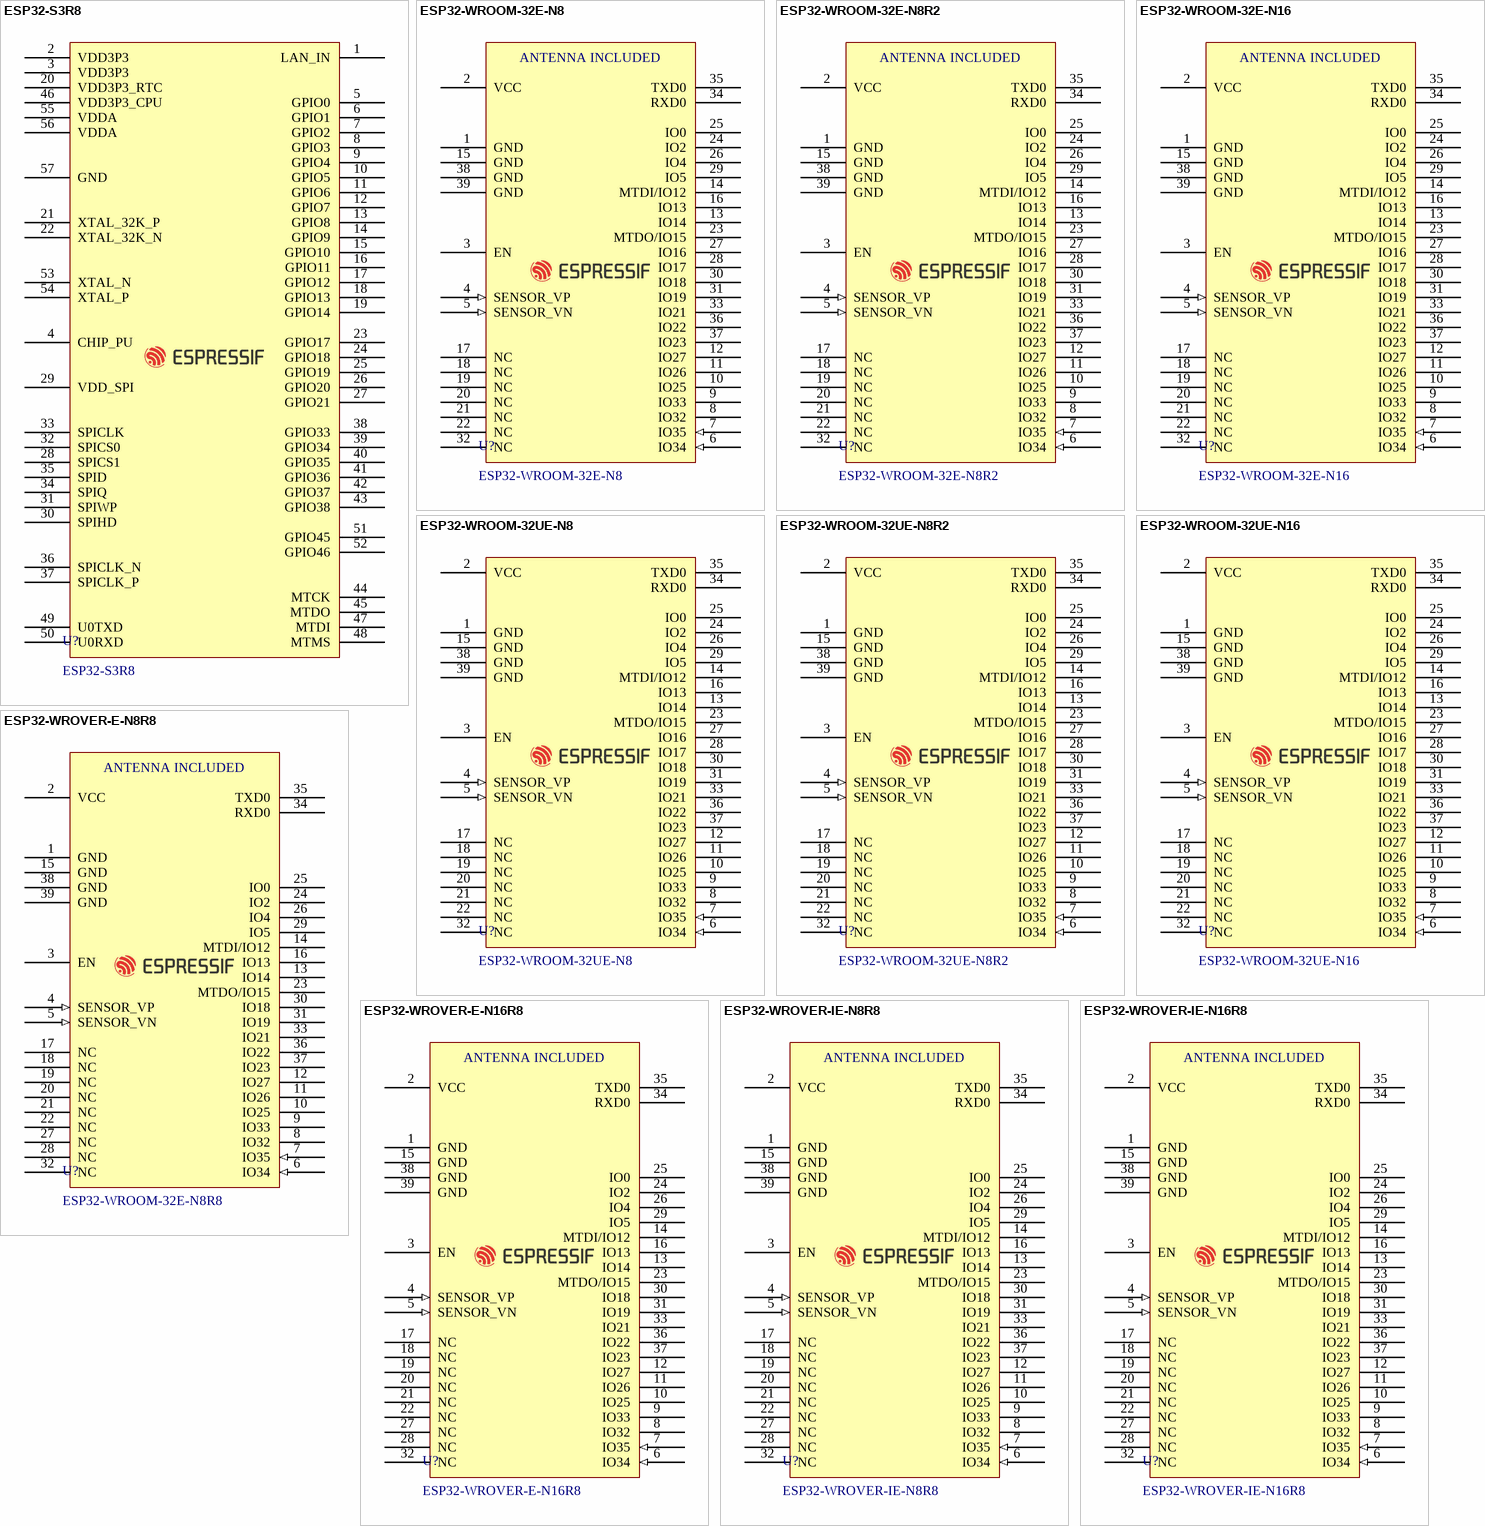
[diagram p2: symbols ESP32-S3R8 to ESP32-WROVER-IE-N16R8]

## ESP32-S3R8
designator U?
RF System on a Chip - SoC SMD IC ESP32-S3R8, dual-core MCU, Wi-Fi 2.4G & BLE 5.0 combo, 8 MB Octal SPI PSRAM die inside, QFN 56-pin, 7*7 mm; Manufacturer: Espressif Systems; Supply Voltage - Max: 3.6 V; Supply Voltage - Min: 3 V; Ram size: 8MB; Part Number: ESP32-S3R8; Supplier 1 URL: https://www.mouser.com/ProductDetail/Espressif-Systems/ESP32-S3R8?qs=Rp5uXu7WBW%252Bto4RqH8CMng%3D%3D; Supplier 2 URL: https://www.digikey.com/en/products/detail/espressif-systems/esp32-s3r8/15822451; Supplier 3 URL: N/A; Value: ESP32-S3R8; Manufacturer Part Number: ESP32-S3R8; Packaging: Tape and Reel; Supplier 1: Mouser; Supplier 1 Part Number: 356-ESP32-S3R8; Supplier 2: Digi-Key; Supplier 2 Part Number: 1904-ESP32-S3R8TR-ND; Supplier 3: thegioiic; Supplier 3 Part Number: N/A; Mount: SMD/SMT; Operating Temperature Max: + 85 C; Operating Temperature Min: - 40 C; ComponentLink1Description: Datasheet; ComponentLink1URL: https://www.lcsc.com/datasheet/C2913194.pdf; LCSC Part #: C2913194; Flash size: N/A
footprint QFN40P700X700X90_HS-57N (QFN, 56-Leads, Body 7.00x7.00mm, Pitch 0.40mm, Thermal Pad 4.00x4.00mm, IPC Medium Density)
pins: 1 LAN_IN, 2 VDD3P3, 3 VDD3P3, 4 CHIP_PU, 5 GPIO0, 6 GPIO1, 7 GPIO2, 8 GPIO3, 9 GPIO4, 10 GPIO5, 11 GPIO6, 12 GPIO7, 13 GPIO8, 14 GPIO9, 15 GPIO10, 16 GPIO11, 17 GPIO12, 18 GPIO13, 19 GPIO14, 20 VDD3P3_RTC, 21 XTAL_32K_P, 22 XTAL_32K_N, 23 GPIO17, 24 GPIO18, 25 GPIO19, 26 GPIO20, 27 GPIO21, 28 SPICS1, 29 VDD_SPI, 30 SPIHD, 31 SPIWP, 32 SPICS0, 33 SPICLK, 34 SPIQ, 35 SPID, 36 SPICLK_N, 37 SPICLK_P, 38 GPIO33, 39 GPIO34, 40 GPIO35, 41 GPIO36, 42 GPIO37, 43 GPIO38, 44 MTCK, 45 MTDO, 46 VDD3P3_CPU, 47 MTDI, 48 MTMS, 49 U0TXD, 50 U0RXD, 51 GPIO45, 52 GPIO46, 53 XTAL_N, 54 XTAL_P, 55 VDDA, 56 VDDA, 57 GND

## ESP32-WROOM-32E-N8
designator U?
These are ESP32-D0WD-based modules with integrated flash. These modules are well suited for Wi-Fi and Bluetooth/Bluetooth LE-based connectivity applications and provide a solid dual-core performance.; Manufacturer: Espressif Systems; Supply Voltage - Max: 3.6 V; Supply Voltage - Min: 3 V; Flash size: 8MB; Part Number: ESP32-WROOM-32E-N8; Supplier 1 URL: N/A; Supplier 2 URL: https://www.digikey.com/en/products/detail/espressif-systems/esp32-wroom-32e-n8/13159522; Supplier 3 URL: N/A; Value: ESP32-WROOM-32E-N8; Manufacturer Part Number: ESP32-WROOM-32E-N8; Packaging: Tape and Reel; Supplier 1: Mouser; Supplier 1 Part Number: N/A; Supplier 2: Digi-Key; Supplier 2 Part Number: 1965-ESP32-WROOM-32E-N8TR-ND; Supplier 3: thegioiic; Supplier 3 Part Number: N/A; Mount: SMD/SMT; Operating Temperature Max: + 85 C; Operating Temperature Min: - 40 C; ComponentLink1Description: Datasheet; ComponentLink1URL: https://www.mouser.com/datasheet/2/891/esp32_wroom_32e_esp32_wroom_32ue_datasheet_en-1855879.pdf; LCSC Part #: C701342; Ram size: N/A
footprint ESP32_WROOM_OB_ANTENNA
pins: 1 GND, 2 VCC, 3 EN, 4 SENSOR_VP (in), 5 SENSOR_VN (in), 6 IO34 (in), 7 IO35 (in), 8 IO32, 9 IO33, 10 IO25, 11 IO26, 12 IO27, 13 IO14, 14 MTDI/IO12, 15 GND, 16 IO13, 17 NC, 18 NC, 19 NC, 20 NC, 21 NC, 22 NC, 23 MTDO/IO15, 24 IO2, 25 IO0, 26 IO4, 27 IO16, 28 IO17, 29 IO5, 30 IO18, 31 IO19, 32 NC, 33 IO21, 34 RXD0, 35 TXD0, 36 IO22, 37 IO23, 38 GND, 39 GND
text: ANTENNA INCLUDED

## ESP32-WROOM-32E-N8R2
designator U?
These are ESP32-D0WD-based modules with integrated flash. These modules are well suited for Wi-Fi and Bluetooth/Bluetooth LE-based connectivity applications and provide a solid dual-core performance.; Manufacturer: Espressif Systems; Supply Voltage - Max: 3.6 V; Supply Voltage - Min: 3 V; Flash size: 8MB; Ram size: 2MB; Part Number: ESP32-WROOM-32E-N8R2; Supplier 1 URL: https://www.mouser.vn/ProductDetail/Espressif-Systems/ESP32-WROOM-32E-N8R2?qs=By6Nw2ByBD0mvGJSS3Ohlw%3D%3D; Supplier 2 URL: https://www.digikey.com/en/products/detail/espressif-systems/ESP32-WROOM-32E-N8R2/16733099?s=N4IgTCBcDaIKIGUAKBmMBaA6gJQPK4Fl0050A5ADmwgF0BfIA; Supplier 3 URL: N/A; Value: ESP32-WROOM-32E-N8R2; Manufacturer Part Number: ESP32-WROOM-32E-N8R2; Packaging: Tape and Reel; Supplier 1: Mouser; Supplier 1 Part Number: 356-ESP32WRM32EN8R2; Supplier 2: Digi-Key; Supplier 2 Part Number: 1965-ESP32-WROOM-32E-N8R2TR-ND; Supplier 3: thegioiic; Supplier 3 Part Number: N/A; Mount: SMD/SMT; Operating Temperature Max: + 85 C; Operating Temperature Min: - 40 C; ComponentLink1Description: Datasheet; ComponentLink1URL: https://www.mouser.com/datasheet/2/891/esp32_wroom_32e_esp32_wroom_32ue_datasheet_en-1855879.pdf; LCSC Part #: C5361945
footprint ESP32_WROOM_OB_ANTENNA
pins: 1 GND, 2 VCC, 3 EN, 4 SENSOR_VP (in), 5 SENSOR_VN (in), 6 IO34 (in), 7 IO35 (in), 8 IO32, 9 IO33, 10 IO25, 11 IO26, 12 IO27, 13 IO14, 14 MTDI/IO12, 15 GND, 16 IO13, 17 NC, 18 NC, 19 NC, 20 NC, 21 NC, 22 NC, 23 MTDO/IO15, 24 IO2, 25 IO0, 26 IO4, 27 IO16, 28 IO17, 29 IO5, 30 IO18, 31 IO19, 32 NC, 33 IO21, 34 RXD0, 35 TXD0, 36 IO22, 37 IO23, 38 GND, 39 GND
text: ANTENNA INCLUDED

## ESP32-WROOM-32E-N16
designator U?
These are ESP32-D0WD-based modules with integrated flash. These modules are well suited for Wi-Fi and Bluetooth/Bluetooth LE-based connectivity applications and provide a solid dual-core performance.; Manufacturer: Espressif Systems; Supply Voltage - Max: 3.6 V; Supply Voltage - Min: 3 V; Flash size: 16MB; Part Number: ESP32-WROOM-32E-N16; Supplier 1 URL: N/A; Supplier 2 URL: https://www.digikey.com/en/products/detail/espressif-systems/ESP32-WROOM-32E-16MB/11613144; Supplier 3 URL: N/A; Value: ESP32-WROOM-32E-N16; Manufacturer Part Number: ESP32-WROOM-32E-N16; Packaging: Tape and Reel; Supplier 1: Mouser; Supplier 1 Part Number: N/A; Supplier 2: Digi-Key; Supplier 2 Part Number: 1965-ESP32-WROOM-32E-N16TR-ND; Supplier 3: thegioiic; Supplier 3 Part Number: N/A; Mount: SMD/SMT; Operating Temperature Max: + 85 C; Operating Temperature Min: - 40 C; ComponentLink1Description: Datasheet; ComponentLink1URL: https://www.mouser.com/datasheet/2/891/esp32_wroom_32e_esp32_wroom_32ue_datasheet_en-1855879.pdf; LCSC Part #: C701343; Ram size: N/A
footprint ESP32_WROOM_OB_ANTENNA
pins: 1 GND, 2 VCC, 3 EN, 4 SENSOR_VP (in), 5 SENSOR_VN (in), 6 IO34 (in), 7 IO35 (in), 8 IO32, 9 IO33, 10 IO25, 11 IO26, 12 IO27, 13 IO14, 14 MTDI/IO12, 15 GND, 16 IO13, 17 NC, 18 NC, 19 NC, 20 NC, 21 NC, 22 NC, 23 MTDO/IO15, 24 IO2, 25 IO0, 26 IO4, 27 IO16, 28 IO17, 29 IO5, 30 IO18, 31 IO19, 32 NC, 33 IO21, 34 RXD0, 35 TXD0, 36 IO22, 37 IO23, 38 GND, 39 GND
text: ANTENNA INCLUDED

## ESP32-WROOM-32UE-N8
designator U?
These are ESP32-D0WD-based modules with integrated flash. These modules are well suited for Wi-Fi and Bluetooth/Bluetooth LE-based connectivity applications and provide a solid dual-core performance.; Manufacturer: Espressif Systems; Supply Voltage - Max: 3.6 V; Supply Voltage - Min: 3 V; Flash size: 8MB; Part Number: ESP32-WROOM-32UE-N8; Supplier 1 URL: N/A; Supplier 2 URL: https://www.digikey.com/en/products/detail/espressif-systems/ESP32-WROOM-32UE-8MB/11613142; Supplier 3 URL: N/A; Value: ESP32-WROOM-32UE-N8; Manufacturer Part Number: ESP32-WROOM-32UE-N8; Packaging: Tape and Reel; Supplier 1: Mouser; Supplier 1 Part Number: N/A; Supplier 2: Digi-Key; Supplier 2 Part Number: 1965-ESP32-WROOM-32UE-N8TR-ND; Supplier 3: thegioiic; Supplier 3 Part Number: N/A; Mount: SMD/SMT; Operating Temperature Max: + 85 C; Operating Temperature Min: - 40 C; ComponentLink1Description: Datasheet; ComponentLink1URL: https://www.mouser.com/datasheet/2/891/esp32_wroom_32e_esp32_wroom_32ue_datasheet_en-1855879.pdf; LCSC Part #: C701345; Ram size: N/A
footprint ESP32_WROOM
pins: 1 GND, 2 VCC, 3 EN, 4 SENSOR_VP (in), 5 SENSOR_VN (in), 6 IO34 (in), 7 IO35 (in), 8 IO32, 9 IO33, 10 IO25, 11 IO26, 12 IO27, 13 IO14, 14 MTDI/IO12, 15 GND, 16 IO13, 17 NC, 18 NC, 19 NC, 20 NC, 21 NC, 22 NC, 23 MTDO/IO15, 24 IO2, 25 IO0, 26 IO4, 27 IO16, 28 IO17, 29 IO5, 30 IO18, 31 IO19, 32 NC, 33 IO21, 34 RXD0, 35 TXD0, 36 IO22, 37 IO23, 38 GND, 39 GND

## ESP32-WROOM-32UE-N8R2
designator U?
These are ESP32-D0WD-based modules with integrated flash. These modules are well suited for Wi-Fi and Bluetooth/Bluetooth LE-based connectivity applications and provide a solid dual-core performance.; Manufacturer: Espressif Systems; Supply Voltage - Max: 3.6 V; Supply Voltage - Min: 3 V; Flash size: 8MB; Ram size: 2MB; Part Number: ESP32-WROOM-32UE-N8R2; Supplier 1 URL: N/A; Supplier 2 URL: https://www.digikey.com/en/products/detail/espressif-systems/ESP32-WROOM-32UE-N8R2/16733086?s=N4IgTCBcDaIKIGUAKBmMBaA6gJQPK4Fl00BVOdAOQA5sIBdAXyA; Supplier 3 URL: N/A; Value: ESP32-WROOM-32UE-N8R2; Manufacturer Part Number: ESP32-WROOM-32UE-N8R2; Packaging: Tape and Reel; Supplier 1: Mouser; Supplier 1 Part Number: N/A; Supplier 2: Digi-Key; Supplier 2 Part Number: 1965-ESP32-WROOM-32UE-N8R2TR-ND; Supplier 3: thegioiic; Supplier 3 Part Number: N/A; Mount: SMD/SMT; Operating Temperature Max: + 85 C; Operating Temperature Min: - 40 C; ComponentLink1Description: Datasheet; ComponentLink1URL: https://www.mouser.com/datasheet/2/891/esp32_wroom_32e_esp32_wroom_32ue_datasheet_en-1855879.pdf; LCSC Part #: N/A
footprint ESP32_WROOM
pins: 1 GND, 2 VCC, 3 EN, 4 SENSOR_VP (in), 5 SENSOR_VN (in), 6 IO34 (in), 7 IO35 (in), 8 IO32, 9 IO33, 10 IO25, 11 IO26, 12 IO27, 13 IO14, 14 MTDI/IO12, 15 GND, 16 IO13, 17 NC, 18 NC, 19 NC, 20 NC, 21 NC, 22 NC, 23 MTDO/IO15, 24 IO2, 25 IO0, 26 IO4, 27 IO16, 28 IO17, 29 IO5, 30 IO18, 31 IO19, 32 NC, 33 IO21, 34 RXD0, 35 TXD0, 36 IO22, 37 IO23, 38 GND, 39 GND

## ESP32-WROOM-32UE-N16
designator U?
These are ESP32-D0WD-based modules with integrated flash. These modules are well suited for Wi-Fi and Bluetooth/Bluetooth LE-based connectivity applications and provide a solid dual-core performance.; Manufacturer: Espressif Systems; Supply Voltage - Max: 3.6 V; Supply Voltage - Min: 3 V; Flash size: 16MB; Part Number: ESP32-WROOM-32UE-N16; Supplier 1 URL: N/A; Supplier 2 URL: https://www.digikey.com/en/products/detail/espressif-systems/ESP32-WROOM-32UE-16MB/11613145; Supplier 3 URL: N/A; Value: ESP32-WROOM-32UE-N16; Manufacturer Part Number: ESP32-WROOM-32UE-N16; Packaging: Tape and Reel; Supplier 1: Mouser; Supplier 1 Part Number: N/A; Supplier 2: Digi-Key; Supplier 2 Part Number: 1965-ESP32-WROOM-32UE-N16TR-ND; Supplier 3: thegioiic; Supplier 3 Part Number: N/A; Mount: SMD/SMT; Operating Temperature Max: + 85 C; Operating Temperature Min: - 40 C; ComponentLink1Description: Datasheet; ComponentLink1URL: https://www.mouser.com/datasheet/2/891/esp32_wroom_32e_esp32_wroom_32ue_datasheet_en-1855879.pdf; LCSC Part #: C701346; Ram size: N/A
footprint ESP32_WROOM
pins: 1 GND, 2 VCC, 3 EN, 4 SENSOR_VP (in), 5 SENSOR_VN (in), 6 IO34 (in), 7 IO35 (in), 8 IO32, 9 IO33, 10 IO25, 11 IO26, 12 IO27, 13 IO14, 14 MTDI/IO12, 15 GND, 16 IO13, 17 NC, 18 NC, 19 NC, 20 NC, 21 NC, 22 NC, 23 MTDO/IO15, 24 IO2, 25 IO0, 26 IO4, 27 IO16, 28 IO17, 29 IO5, 30 IO18, 31 IO19, 32 NC, 33 IO21, 34 RXD0, 35 TXD0, 36 IO22, 37 IO23, 38 GND, 39 GND

## ESP32-WROVER-E-N8R8
designator U?, comment ESP32-WROOM-32E-N8R8
The ESP32-WROVER series is based on ESP32-D0WD SoC, having also integrated flash memory and SPIRAM. It achieves a fine dual-core performance, and is well suited for applications requiring more memory, such as AIoT and gateway applications.; Part Number: ESP32-WROVER-E-N8R8; Manufacturer: Espressif Systems; Supply Voltage - Max: 3.6 V; Supply Voltage - Min: 3 V; Flash size: 8MB; Supplier 1 URL: N/A; Supplier 2 URL: https://www.digikey.com/en/products/detail/espressif-systems/ESP32-WROVER-E-8MB/11613126; Supplier 3 URL: N/A; Value: ESP32-WROOM-32E-N8R8; Manufacturer Part Number: ESP32-WROVER-E-N8R8; Packaging: Tape and Reel; Supplier 1: Mouser; Supplier 1 Part Number: N/A; Supplier 2: Digi-Key; Supplier 2 Part Number: 1965-ESP32-WROVER-E-N8R8TR-ND; Supplier 3: thegioiic; Supplier 3 Part Number: N/A; Mount: SMD/SMT; Operating Temperature Max: + 85 C; Operating Temperature Min: - 40 C; ComponentLink1Description: Datasheet; ComponentLink1URL: https://www.mouser.com/datasheet/2/891/esp32_wrover_e_esp32_wrover_ie_datasheet_en-1855913.pdf; LCSC Part #: N/A; Ram size: 8MB
footprint ESP32_WROVER_E
pins: 1 GND, 2 VCC, 3 EN, 4 SENSOR_VP (in), 5 SENSOR_VN (in), 6 IO34 (in), 7 IO35 (in), 8 IO32, 9 IO33, 10 IO25, 11 IO26, 12 IO27, 13 IO14, 14 MTDI/IO12, 15 GND, 16 IO13, 17 NC, 18 NC, 19 NC, 20 NC, 21 NC, 22 NC, 23 MTDO/IO15, 24 IO2, 25 IO0, 26 IO4, 27 NC, 28 NC, 29 IO5, 30 IO18, 31 IO19, 32 NC, 33 IO21, 34 RXD0, 35 TXD0, 36 IO22, 37 IO23, 38 GND, 39 GND
text: ANTENNA INCLUDED

## ESP32-WROVER-E-N16R8
designator U?
The ESP32-WROVER series is based on ESP32-D0WD SoC, having also integrated flash memory and SPIRAM. It achieves a fine dual-core performance, and is well suited for applications requiring more memory, such as AIoT and gateway applications.; Manufacturer: Espressif Systems; Supply Voltage - Max: 3.6 V; Supply Voltage - Min: 3 V; Flash size: 16MB; Ram size: 8MB; Part Number: ESP32-WROVER-E-N16R8; Supplier 1 URL: N/A; Supplier 2 URL: https://www.digikey.com/en/products/detail/espressif-systems/ESP32-WROVER-E-16MB/11613135; Supplier 3 URL: N/A; Value: ESP32-WROVER-E-N16R8; Manufacturer Part Number: ESP32-WROVER-E-N16R8; Packaging: Tape and Reel; Supplier 1: Mouser; Supplier 1 Part Number: N/A; Supplier 2: Digi-Key; Supplier 2 Part Number: 1965-ESP32-WROVER-E-N16R8TR-ND; Supplier 3: thegioiic; Supplier 3 Part Number: N/A; Mount: SMD/SMT; Operating Temperature Max: + 85 C; Operating Temperature Min: - 40 C; ComponentLink1Description: Datasheet; ComponentLink1URL: https://www.mouser.com/datasheet/2/891/esp32_wrover_e_esp32_wrover_ie_datasheet_en-1855913.pdf; LCSC Part #: N/A
footprint ESP32_WROVER_E
pins: 1 GND, 2 VCC, 3 EN, 4 SENSOR_VP (in), 5 SENSOR_VN (in), 6 IO34 (in), 7 IO35 (in), 8 IO32, 9 IO33, 10 IO25, 11 IO26, 12 IO27, 13 IO14, 14 MTDI/IO12, 15 GND, 16 IO13, 17 NC, 18 NC, 19 NC, 20 NC, 21 NC, 22 NC, 23 MTDO/IO15, 24 IO2, 25 IO0, 26 IO4, 27 NC, 28 NC, 29 IO5, 30 IO18, 31 IO19, 32 NC, 33 IO21, 34 RXD0, 35 TXD0, 36 IO22, 37 IO23, 38 GND, 39 GND
text: ANTENNA INCLUDED

## ESP32-WROVER-IE-N8R8
designator U?
The ESP32-WROVER series is based on ESP32-D0WD SoC, having also integrated flash memory and SPIRAM. It achieves a fine dual-core performance, and is well suited for applications requiring more memory, such as AIoT and gateway applications.; Manufacturer: Espressif Systems; Supply Voltage - Max: 3.6 V; Supply Voltage - Min: 3 V; Flash size: 8MB; Part Number: ESP32-WROVER-IE-N8R8; Supplier 1 URL: N/A; Supplier 2 URL: https://www.digikey.com/en/products/detail/espressif-systems/ESP32-WROVER-IE-8MB/11613139; Supplier 3 URL: N/A; Value: ESP32-WROVER-IE-N8R8; Manufacturer Part Number: ESP32-WROVER-IE-N8R8; Packaging: Tape and Reel; Supplier 1: Mouser; Supplier 1 Part Number: N/A; Supplier 2: Digi-Key; Supplier 2 Part Number: 1965-ESP32-WROVER-IE-N8R8TR-ND; Supplier 3: thegioiic; Supplier 3 Part Number: N/A; Mount: SMD/SMT; Operating Temperature Max: + 85 C; Operating Temperature Min: - 40 C; ComponentLink1Description: Datasheet; ComponentLink1URL: https://www.mouser.com/datasheet/2/891/esp32_wrover_e_esp32_wrover_ie_datasheet_en-1855913.pdf; LCSC Part #: N/A; Ram size: 8MB
footprint ESP32_WROVER_IE
pins: 1 GND, 2 VCC, 3 EN, 4 SENSOR_VP (in), 5 SENSOR_VN (in), 6 IO34 (in), 7 IO35 (in), 8 IO32, 9 IO33, 10 IO25, 11 IO26, 12 IO27, 13 IO14, 14 MTDI/IO12, 15 GND, 16 IO13, 17 NC, 18 NC, 19 NC, 20 NC, 21 NC, 22 NC, 23 MTDO/IO15, 24 IO2, 25 IO0, 26 IO4, 27 NC, 28 NC, 29 IO5, 30 IO18, 31 IO19, 32 NC, 33 IO21, 34 RXD0, 35 TXD0, 36 IO22, 37 IO23, 38 GND, 39 GND
text: ANTENNA INCLUDED

## ESP32-WROVER-IE-N16R8
designator U?
The ESP32-WROVER series is based on ESP32-D0WD SoC, having also integrated flash memory and SPIRAM. It achieves a fine dual-core performance, and is well suited for applications requiring more memory, such as AIoT and gateway applications.; Manufacturer: Espressif Systems; Supply Voltage - Max: 3.6 V; Supply Voltage - Min: 3 V; Flash size: 16MB; Ram size: 8MB; Part Number: ESP32-WROVER-IE-N16R8; Supplier 1 URL: N/A; Supplier 2 URL: https://www.digikey.com/en/products/detail/espressif-systems/ESP32-WROVER-IE-16MB/11613133; Supplier 3 URL: N/A; Value: ESP32-WROVER-IE-N16R8; Manufacturer Part Number: ESP32-WROVER-IE-N16R8; Packaging: Tape and Reel; Supplier 1: Mouser; Supplier 1 Part Number: N/A; Supplier 2: Digi-Key; Supplier 2 Part Number: 1965-ESP32-WROVER-IE-N16R8TR-ND; Supplier 3: thegioiic; Supplier 3 Part Number: N/A; Mount: SMD/SMT; Operating Temperature Max: + 85 C; Operating Temperature Min: - 40 C; ComponentLink1Description: Datasheet; ComponentLink1URL: https://www.mouser.com/datasheet/2/891/esp32_wrover_e_esp32_wrover_ie_datasheet_en-1855913.pdf; LCSC Part #: N/A
footprint ESP32_WROVER_IE
pins: 1 GND, 2 VCC, 3 EN, 4 SENSOR_VP (in), 5 SENSOR_VN (in), 6 IO34 (in), 7 IO35 (in), 8 IO32, 9 IO33, 10 IO25, 11 IO26, 12 IO27, 13 IO14, 14 MTDI/IO12, 15 GND, 16 IO13, 17 NC, 18 NC, 19 NC, 20 NC, 21 NC, 22 NC, 23 MTDO/IO15, 24 IO2, 25 IO0, 26 IO4, 27 NC, 28 NC, 29 IO5, 30 IO18, 31 IO19, 32 NC, 33 IO21, 34 RXD0, 35 TXD0, 36 IO22, 37 IO23, 38 GND, 39 GND
text: ANTENNA INCLUDED